# Altium schematic symbol library ELN1Schlib.SchLib: 7 symbols
Pins are listed as number, name and electrical type; pins without a type are passive.

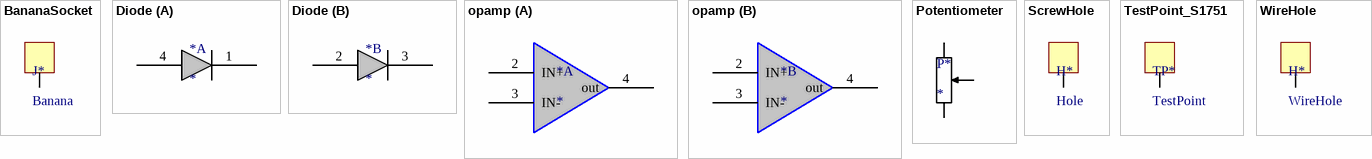
[diagram p0: symbols BananaSocket to WireHole]

## BananaSocket
designator J*, comment Banana
footprint 108-09xx
pins: 1

## Diode
designator *
footprint SOT190P240X110-4M (SOT143, 4-Leads, Body 2.92x2.40mm, Pitch 1.90mm, IPC Low Density)
part A pins: 1, 4
part B pins: 2, 3

## opamp
designator *
part A pins: 2 IN+, 3 IN-, 4 out
part B pins: 2 IN+, 3 IN-, 4 out

## Potentiometer
designator P*
Value: *
footprint BOURNS-PTV09A-4
pins: 1, 2, 3

## ScrewHole
designator H*, comment Hole
footprint ScrewHole
pins: 1

## TestPoint_S1751
designator TP*, comment TestPoint
S1751-46R
footprint S1751-46R
pins: 1

## WireHole
designator H*
footprint WireHole
pins: 1